# EAGLE library part TPD12S521DBTR (library NewSDR)
TEXAS INSTRUMENTS SINGLE-CHIP HDMI TRANSMITTER PORT PROTECTION AND INTERFACE DEVIC
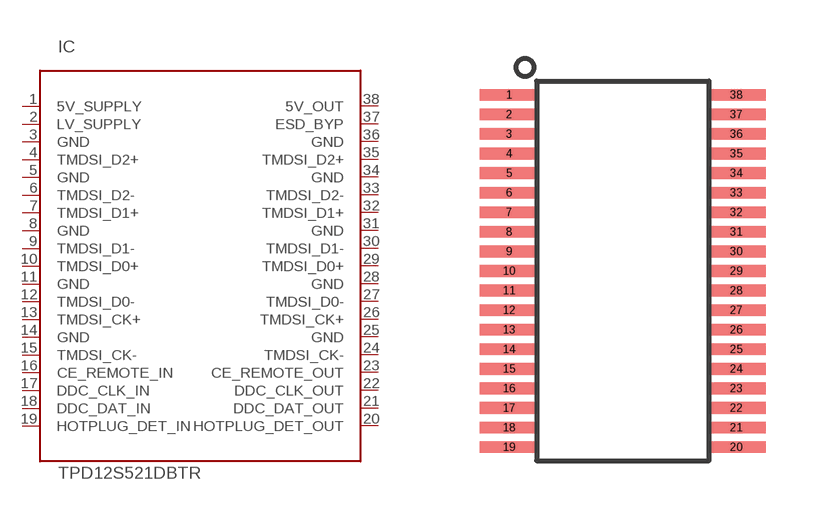
[diagram p166: symbol with the pads of TSSOP38; footprint TSSOP38]

Designator prefix IC

## TPD12S521DBTR  [TSSOP38]
1  5V_SUPPLY  pwr
2  LV_SUPPLY  pwr
3  GND
4  TMDSI_D2+
5  GND
6  TMDSI_D2-
7  TMDSI_D1+
8  GND
9  TMDSI_D1-
10  TMDSI_D0+
11  GND
12  TMDSI_D0-
13  TMDSI_CK+
14  GND
15  TMDSI_CK-
16  CE_REMOTE_IN  in
17  DDC_CLK_IN  in
18  DDC_DAT_IN  in
19  HOTPLUG_DET_IN  in
20  HOTPLUG_DET_OUT  out
21  DDC_DAT_OUT  out
22  DDC_CLK_OUT  out
23  CE_REMOTE_OUT  out
24  TMDSI_CK-
25  GND  pwr
26  TMDSI_CK+
27  TMDSI_D0-
28  GND  pwr
29  TMDSI_D0+
30  TMDSI_D1-
31  GND  pwr
32  TMDSI_D1+
33  TMDSI_D2-
34  GND  pwr
35  TMDSI_D2+
36  GND  pwr
37  ESD_BYP  pas
38  5V_OUT  pwr

## Footprint TSSOP38 (pad centres in mm)
smd 1.5 x 0.3: 1 -2.9,4.5; 2 -2.9,4; 3 -2.9,3.5; 4 -2.9,3; 5 -2.9,2.5; 6 -2.9,2; 7 -2.9,1.5; 8 -2.9,1; 9 -2.9,0.5; 10 -2.9,0; 11 -2.9,-0.5; 12 -2.9,-1; 13 -2.9,-1.5; 14 -2.9,-2; 15 -2.9,-2.5; 16 -2.9,-3; 17 -2.9,-3.5; 18 -2.9,-4; 19 -2.9,-4.5; 20 2.9,-4.5; 21 2.9,-4; 22 2.9,-3.5; 23 2.9,-3; 24 2.9,-2.5; 25 2.9,-2; 26 2.9,-1.5; 27 2.9,-1; 28 2.9,-0.5; 29 2.9,0; 30 2.9,0.5; 31 2.9,1; 32 2.9,1.5; 33 2.9,2; 34 2.9,2.5; 35 2.9,3; 36 2.9,3.5; 37 2.9,4; 38 2.9,4.5